# Altium footprint library PEI_PCB_1.1.PcbLib: 310 footprints (part 20 of 20)
Each footprint in its own frame and in the unit in brackets; x right, y up, seen from the top. Pads: shape width x height; smd on the part's side, far side on the other; paste and mask are expansions set on the pad; w line width, h text height; cw(c..) or ccw(c..) is an arc to the next point about the centre after c.
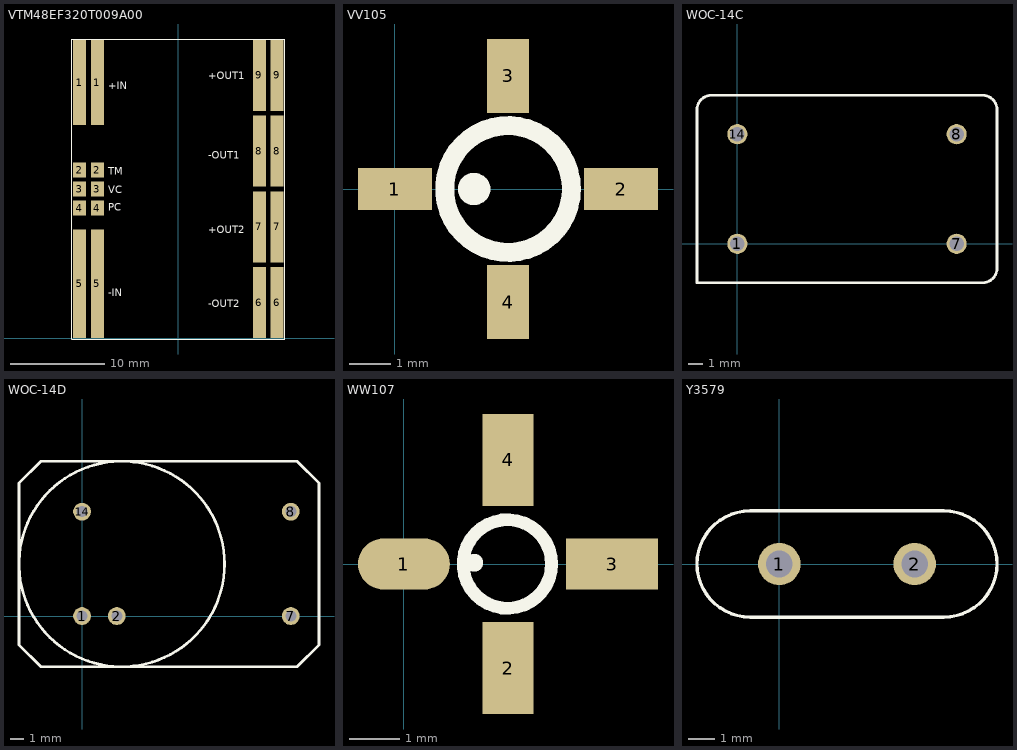
[diagram p19: the footprints below, top view; thin cyan lines are the x and y axes]

## VTM48EF320T009A00 [mil]
pads (18):
  rect 54x352 smd: 1(-411,1063) 1(-337,1063)
  rect 54x63 smd: 2(-411,698.5) 2(-337,698.5) 3(-411,619.5) 3(-337,619.5) 4(-411,540.5) 4(-337,540.5)
  rect 54x452 smd: 5(-411,226) 5(-337,226)
  rect 54x295 smd: 6(337,147.5) 6(411,147.5) 7(337,462.5) 7(411,462.5) 8(337,777.5) 8(411,777.5) 9(337,1092.5) 9(411,1092.5)
TopOverlay:
  lines w5: -443,-4 442,-4 442,1244 -443,1244 -443,-4
  text "+IN" at -291,1035 h30
  text "-IN" at -291,173 h30
  text "TM" at -291,679 h30
  text "VC" at -291,602 h30
  text "PC" at -291,530 h30
  text "+OUT2" at 124,435 h30
  text "-OUT2" at 124,128 h30
  text "-OUT1" at 124,746 h30
  text "+OUT1" at 124,1076 h30

## VV105 [mil]
pads (4):
  rect 70x40 smd: 1(0,0) 2(214,0)
  rect 40x70 smd: 3(107,107) 4(107,-107)
TopOverlay:
  circle w18: c75,0 r6.35
  circle w18: c107,0 r60

## WOC-14C [mm]
pads (4):
  round 1.4 hole 1: 1(0,0) 7(15.2,0) 8(15.2,7.6) 14(0,7.6)
TopOverlay:
  lines w0.2: -2.8,-2.7 17,-2.7 ccw(c17,-1.7) 18,-1.7 18,9.3 ccw(c17,9.3) 17,10.3 -1.8,10.3 ccw(c-1.8,9.3) -2.8,9.3 -2.8,-2.7

## WOC-14D [mm]
pads (5):
  round 1.3 hole 0.8: 1(0,0) 2(2.54,0) 7(15.24,0) 8(15.24,7.62) 14(0,7.62)
TopOverlay:
  circle w0.2: c2.9,3.8 r7.5
  lines w0.2: -4.6,-2.1 -4.6,9.7 -3,11.3 15.7,11.3 17.3,9.7 17.3,-2.1 15.7,-3.7 -3,-3.7 -4.6,-2.1

## WW107 [mil]
pads (4):
  oval 72x40 smd: 1(0,0)
  rect 40x72 smd: 2(81.5,-81.5) 4(81.5,81.5)
  rect 72x40 smd: 3(163,0)
TopOverlay:
  circle w10: c55,1 r2
  circle w10: c81,0 r34.66

## Y3579 [mm]
pads (2):
  round 1.6 hole 1: 1(0,0) 2(5.1,0)
TopOverlay:
  lines w0.127: -1.1,-2 cw(c-1.1,0) -1.1,2 6.2,2 cw(c6.2,0) 6.2,-2 -1.1,-2